# Altium footprint library W5500_PCB.PCBlib: 3 footprints
Each footprint in its own frame and in the unit in brackets; x right, y up, seen from the top. Pads: shape width x height; smd on the part's side, far side on the other; paste and mask are expansions set on the pad; w line width, h text height; cw(c..) or ccw(c..) is an arc to the next point about the centre after c.
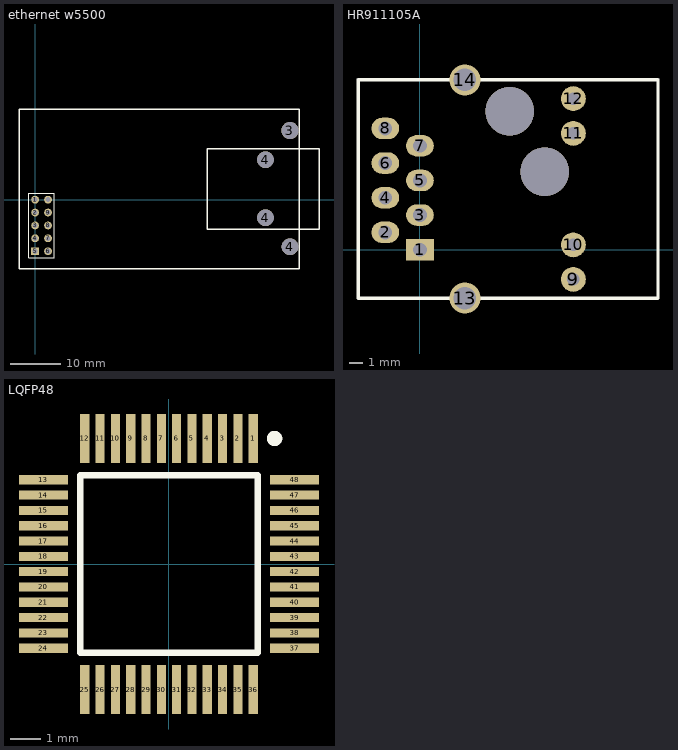
[diagram p0: the footprints below, top view; thin cyan lines are the x and y axes]

## ethernet w5500 [mm]
pads (14):
  round 1.53 hole 1: 1(0,0) 2(0,-2.54) 3(0,-5.08) 4(0,-7.62) 6(2.54,-10.16) 7(2.54,-7.62) 8(2.54,-5.08) 9(2.54,-2.54) 10(2.54,0)
  round 3.4 hole 3.3: 3(50.165,13.589)
  round 3.3 hole 3.3: 4(45.339,-3.556) 4(45.339,7.874) 4(50.165,-9.271)
  rect 1.53x1.53 hole 1: 5(0,-10.16)
Top Overlay:
  lines w0.2: -1.27,-11.43 -1.27,1.27 3.81,1.27 3.81,-11.43 -1.27,-11.43
  lines w0.254: 51.943,-13.589 -3.175,-13.589 -3.175,17.78 52,17.78 52.005,17.776 52.005,-13.589 ; 33.909,-5.842 33.909,-4.826 33.909,10.033 55.88,10.033 55.88,-5.842 51.816,-5.842 33.909,-5.842
3D body "Assembly W5500 ethernet module.STEP": height 15.56, standoff -1.39, extent -2.667,-11.791 56.233,16.109

## HR911105A [mil]
pads (14):
  rect 80x62 hole 40: 1(0,0)
  oval 80x62 hole 40: 2(-100,50) 3(0,100) 4(-100,150) 5(0,200) 6(-100,250) 7(0,300) 8(-100,350)
  round 72 hole 36: 9(442.91,-85.63) 10(442.91,14) 11(442.91,335.87) 12(442.91,436)
  round 90 hole 65: 13(129.92,-139.76) 14(129.92,490.16)
via 260,400 diameter 140 hole 140
via 360,225 diameter 140 hole 140
Top Overlay:
  lines w10: -178.74,-140 -178.5,-139.76 ; -178.74,490 -178.58,490.16 ; -178.58,490.16 -178.58,-139.69 -178.5,-139.76 ; -178.58,490.16 129.92,490.16 687.24,490.16 687.4,490 687.4,-140 687.17,-139.76 129.92,-139.76 -178.5,-139.76
Multi-Layer:
  circle w5: c260,400 r70.8
  circle w5: c260,-50 r70.8
3D body "Assembly W5500 ethernet module.STEP": height 612.7, standoff -54.62, extent -1627.51,-374.21 691.38,724.21

## LQFP48 [mm]
pads (48):
  rect 0.3x1.6 smd: 1(2.75,4.1) 2(2.25,4.1) 3(1.75,4.1) 4(1.25,4.1) 5(0.75,4.1) 6(0.25,4.1) 7(-0.25,4.1) 8(-0.75,4.1) 9(-1.25,4.1) 10(-1.75,4.1) 11(-2.25,4.1) 12(-2.75,4.1) 25(-2.75,-4.1) 26(-2.25,-4.1) 27(-1.75,-4.1) 28(-1.25,-4.1) 29(-0.75,-4.1) 30(-0.25,-4.1) 31(0.25,-4.1) 32(0.75,-4.1) 33(1.25,-4.1) 34(1.75,-4.1) 35(2.25,-4.1) 36(2.75,-4.1)
  rect 1.6x0.3 smd: 13(-4.1,2.75) 14(-4.1,2.25) 15(-4.1,1.75) 16(-4.1,1.25) 17(-4.1,0.75) 18(-4.1,0.25) 19(-4.1,-0.25) 20(-4.1,-0.75) 21(-4.1,-1.25) 22(-4.1,-1.75) 23(-4.1,-2.25) 24(-4.1,-2.75) 37(4.1,-2.75) 38(4.1,-2.25) 39(4.1,-1.75) 40(4.1,-1.25) 41(4.1,-0.75) 42(4.1,-0.25) 43(4.1,0.25) 44(4.1,0.75) 45(4.1,1.25) 46(4.1,1.75) 47(4.1,2.25) 48(4.1,2.75)
Top Overlay:
  circle w0.25: c3.45,4.1 r0.125
  lines w0.2: -2.9,-2.9 2.9,-2.9 2.9,2.9 -2.9,2.9 -2.9,-2.9